# Altium schematic symbol library 二极管.SchLib: 31 symbols
Pins are listed as number, name and electrical type; pins without a type are passive.

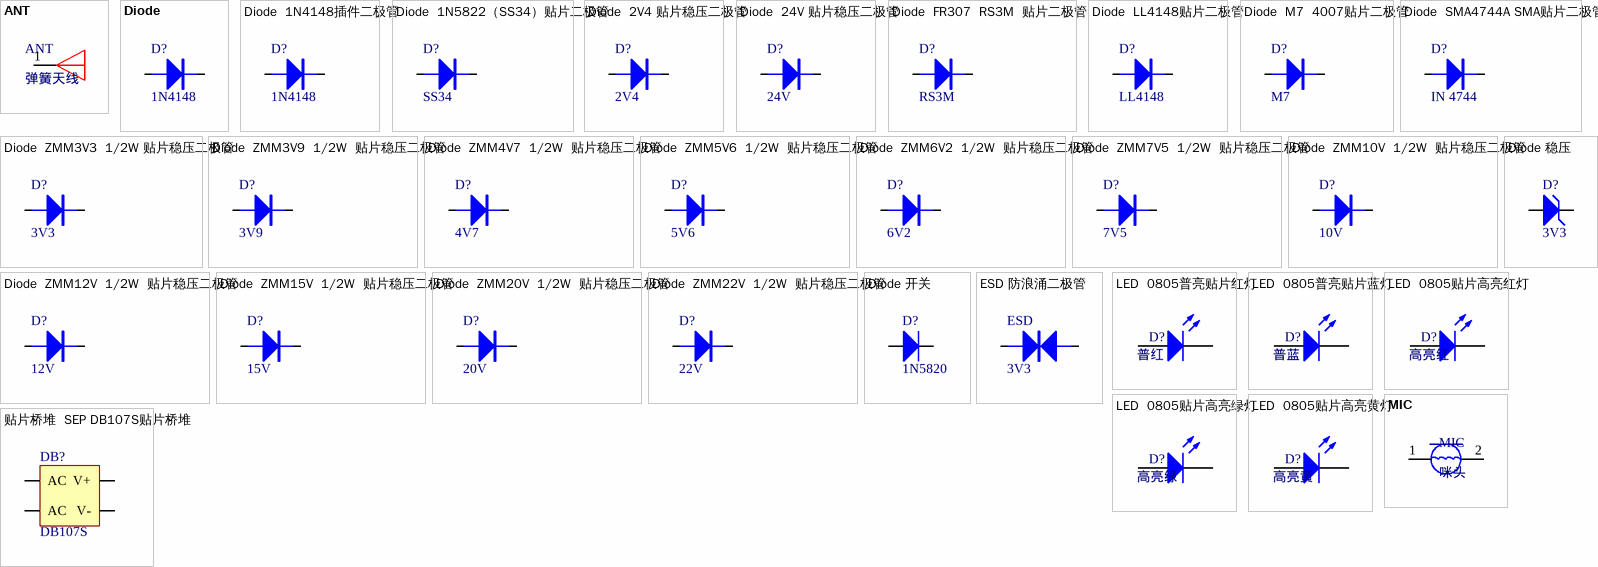
[diagram p0: symbols ANT to 贴片桥堆  SEP DB107S贴片桥堆]

## ANT
designator ANT, comment 弹簧天线
ANT
footprint ANT (弹簧天线)
pins: 1

## Diode
designator D?, comment 1N4148
二极管（模板）; 单位: 只; 仓库名称: 元件仓; 加工方式: 贴片; 规格型号: *
pins: 1, 2

## Diode  1N4148插件二极管
designator D?, comment 1N4148
1N4148插件二极管; 单位: 只; 仓库名称: 元件仓; 加工方式: 插件
footprint IN 34
pins: 1, 2

## Diode  1N5822（SS34）贴片二极管
designator D?, comment SS34
1N5822（SS34）贴片二极管; 单位: 只; 规格型号: DO-214AC（SMA）; 物料代码: 3.01.05.02.0029; 助记码: 1N5822（SS34）TPEJG; 仓库名称: 元件仓; 加工方式: 贴片; 物料名称: 1N5822（SS34）贴片二极管
footprint DO-214AC (这是贴片二极管 1A)
pins: 1, 2

## Diode  2V4 贴片稳压二极管
designator D?, comment 2V4
2V4 贴片稳压二极管; 单位: 只; 物料代码: 3.01.05.02.0014; 助记码: 2V4 WYEJG; 仓库名称: 元件仓; 加工方式: 贴片; 规格型号: *; 物料名称: 2V4 贴片稳压二极管
footprint LL 34
pins: 1, 2

## Diode  24V 贴片稳压二极管
designator D?, comment 24V
24V 贴片稳压二极管; 单位: 只; 物料代码: 3.01.05.02.0013; 助记码: 20V WYEJG; 仓库名称: 元件仓; 加工方式: 贴片; 规格型号: *; 物料名称: 24V 贴片稳压二极管
footprint LL 34
pins: 1, 2

## Diode  FR307  RS3M  贴片二极管
designator D?, comment RS3M
FR307  RS3M  贴片二极管; 单位: 只; 规格型号: SMC/DO-214AA; 物料代码: 3.01.05.02.0012; 助记码: FR307  RS3M  TPEJG; 仓库名称: 元件仓; 加工方式: 贴片; 物料名称: FR307  RS3M  贴片二极管
footprint SMC (7.1x5.9*2.3mm（长宽高，不包括引脚）)
pins: 1, 2

## Diode  LL4148贴片二极管
designator D?, comment LL4148
LL4148贴片二极管; 单位: 只; 规格型号: LL-34; 物料名称: 1N4148贴片二极管; 物料代码: 3.01.05.02.0004; 助记码: 1N4148TPEJG; 仓库名称: 元件仓; 加工方式: 贴片
footprint LL 34
pins: 1, 2

## Diode  M7  4007贴片二极管
designator D?, comment M7
M7  4007贴片二极管; 单位: 只; 规格型号: DO-214; 物料代码: 3.01.05.02.0002; 助记码: M7  4007TPEJG; 仓库名称: 元件仓; 加工方式: 贴片; 物料名称: M7  4007贴片二极管
footprint M7
pins: 1, 2

## Diode  SMA4744A SMA贴片二极管
designator D?, comment IN 4744
SMA4744A SMA贴片二极管; 单位: 只; 规格型号: SMA/DO-214AC; 物料代码: 3.01.05.02.0003; 仓库名称: 元件仓; 加工方式: 贴片; 物料名称: SMA4744A SMA贴片二极管
footprint SMA (4.5x2.6*2.2mm（长宽高，不包括引脚）)
pins: 1, 2

## Diode  ZMM3V3  1/2W 贴片稳压二极管
designator D?, comment 3V3
ZMM3V3  1/2W 贴片稳压二极管; 单位: 只; 规格型号: LL-34; 物料代码: 3.01.05.02.0001; 仓库名称: 元件仓; 加工方式: 贴片; 物料名称: ZMM3V3  1/2W 贴片稳压二极管
footprint LL 34
pins: 1, 2

## Diode  ZMM3V9  1/2W  贴片稳压二极管
designator D?, comment 3V9
ZMM3V9　1/2W  贴片稳压二极管; 单位: 只; 规格型号: LL-34; 物料代码: 3.01.05.02.0005; 助记码: ZMM3V9　1/2W  TPWYEJ; 仓库名称: 元件仓; 加工方式: 贴片; 物料名称: ZMM3V9　1/2W  贴片稳压二极管
footprint LL 34
pins: 1, 2

## Diode  ZMM4V7  1/2W  贴片稳压二极管
designator D?, comment 4V7
ZMM4V7  1/2W  贴片稳压二极管; 单位: 只; 规格型号: LL-34; 物料代码: 3.01.05.02.0006; 助记码: ZMM4V7  1/2W  TPWYEJ; 仓库名称: 元件仓; 加工方式: 贴片; 物料名称: ZMM4V7  1/2W  贴片稳压二极管
footprint LL 34
pins: 1, 2

## Diode  ZMM5V6  1/2W  贴片稳压二极管
designator D?, comment 5V6
ZMM5V6  1/2W  贴片稳压二极管; 单位: 只; 规格型号: LL-34; 物料代码: 3.01.05.02.0025; 助记码: ZMM5V6  1/2W  TPWYEJ; 仓库名称: 元件仓; 加工方式: 贴片; 物料名称: ZMM5V6  1/2W  贴片稳压二极管
footprint LL 34
pins: 1, 2

## Diode  ZMM6V2  1/2W  贴片稳压二极管
designator D?, comment 6V2
ZMM6V2  1/2W  贴片稳压二极管; 单位: 只; 规格型号: LL-34; 物料代码: 3.01.05.02.0007; 助记码: ZMM6V2  1/2W  TPWYEJ; 仓库名称: 元件仓; 加工方式: 贴片; 物料名称: ZMM6V2  1/2W  贴片稳压二极管
footprint LL 34
pins: 1, 2

## Diode  ZMM7V5  1/2W  贴片稳压二极管
designator D?, comment 7V5
（查不到）ZMM7V5  1/2W  贴片稳压二极管; 单位: 只; 物料名称: ZMM10V  1/2W  贴片稳压二极管; 仓库名称: 元件仓; 加工方式: 贴片; 规格型号: *
footprint LL 34
pins: 1, 2

## Diode  ZMM10V  1/2W  贴片稳压二极管
designator D?, comment 10V
ZMM10V  1/2W  贴片稳压二极管; 单位: 只; 规格型号: LL-34; 物料代码: 3.01.05.02.0008; 助记码: ZMM10V  1/2W  TPWYEJ; 仓库名称: 元件仓; 加工方式: 贴片; 物料名称: ZMM10V  1/2W  贴片稳压二极管
footprint LL 34
pins: 1, 2

## Diode  ZMM12V  1/2W  贴片稳压二极管
designator D?, comment 12V
（查不到）ZMM12V  1/2W  贴片稳压二极管; 单位: 只; 仓库名称: 元件仓; 加工方式: 贴片; 规格型号: *; 物料名称: ZMM12V  1/2W  贴片稳压二极管
footprint LL 34
pins: 1, 2

## Diode  ZMM15V  1/2W  贴片稳压二极管
designator D?, comment 15V
（查不到）ZMM15V  1/2W  贴片稳压二极管; 单位: 只; 仓库名称: 元件仓; 加工方式: 贴片; 规格型号: *; 物料名称: ZMM15V  1/2W  贴片稳压二极管
footprint LL 34
pins: 1, 2

## Diode  ZMM20V  1/2W  贴片稳压二极管
designator D?, comment 20V
ZMM20V  1/2W  贴片稳压二极管; 单位: 只; 规格型号: LL-34; 物料代码: 3.01.05.02.0009; 助记码: ZMM20V  1/2W  TPWYEJ; 仓库名称: 元件仓; 加工方式: 贴片; 物料名称: ZMM20V  1/2W  贴片稳压二极管
footprint LL 34
pins: 1, 2

## Diode  ZMM22V  1/2W  贴片稳压二极管
designator D?, comment 22V
ZMM22V  1/2W  贴片稳压二极管; 单位: 只; 规格型号: LL-34; 物料代码: 3.01.05.02.0010; 助记码: ZMM22V  1/2W  TPWYEJ; 仓库名称: 元件仓; 加工方式: 贴片; 物料名称: ZMM22V  1/2W  贴片稳压二极管
footprint LL 34
pins: 1, 2

## Diode 开关
designator D?, comment 1N5820
玻封二极管（模板）; 加工方式: 贴片
footprint D 0805
pins: 1, 2

## Diode 稳压
designator D?, comment 3V3
玻封二极管（模板）; Published: 8-Jun-2000; Revision: July-2002: Re-released for DXP Platform.; Publisher: Altium Limited
footprint LL 34
pins: 1, 2

## ESD 防浪涌二极管
designator ESD, comment 3V3
ESD 二极管; 单位: 只; 规格型号: LL-34; 物料名称: ZMM3V3  1/2W 贴片稳压二极管; 物料代码: 3.01.05.02.0001; 仓库名称: 元件仓; 加工方式: 贴片
footprint LL 34
pins: 1, 2

## LED  0805普亮贴片红灯
designator D?, comment 普红
0805普亮贴片红灯; 单位: 只; 物料代码: 3.01.13.01.0001; 助记码: 0805PLTPHD; 仓库名称: 元件仓; 加工方式: 贴片; 物料名称: 0805普亮贴片红灯; 规格型号: *
footprint LED 0805 (普通亮度，高亮绿灯用)
pins: 1 A, 2 K

## LED  0805普亮贴片蓝灯
designator D?, comment 普蓝
0805普亮贴片蓝灯; 单位: 只; 仓库名称: 元件仓; 加工方式: 贴片; 物料名称: 0805普亮贴片蓝灯; 规格型号: *
footprint LED 0805 (普通亮度，高亮绿灯用)
pins: 1 A, 2 K

## LED  0805贴片高亮红灯
designator D?, comment 高亮红
0805贴片高亮红灯; 单位: 只; 物料代码: 3.01.13.01.0005; 助记码: 0805TPGLHD; 规格型号: E6U0805URAC1UDA; 仓库名称: 元件仓; 加工方式: 贴片; 物料名称: 0805贴片高亮红灯
footprint LED 0805   反极性 (极性相反；高亮红，高亮黄专用)
pins: 1 A, 2 K

## LED  0805贴片高亮绿灯
designator D?, comment 高亮绿
0805贴片高亮绿灯; 单位: 只; 仓库名称: 元件仓; 加工方式: 贴片; 物料名称: 0805贴片高亮绿灯; 规格型号: *
footprint LED 0805 (普通亮度，高亮绿灯用)
pins: 1 A, 2 K

## LED  0805贴片高亮黄灯
designator D?, comment 高亮黄
0805贴片高亮黄灯; 单位: 只; 仓库名称: 元件仓; 加工方式: 贴片; 物料名称: 0805贴片高亮黄灯; 规格型号: *
footprint LED 0805   反极性 (极性相反；高亮红，高亮黄专用)
pins: 1 A, 2 K

## MIC
designator MIC, comment 咪头
footprint MIC (咪头)
pins: 1, 2

## 贴片桥堆  SEP DB107S贴片桥堆
designator DB?, comment DB107S
SEP DB107S贴片桥堆; 物料代码: 3.01.17.02.0001; 助记码: SOP-4; 规格型号: SEP DB107STPQD; 仓库名称: 元件仓; 单位: 只; 加工方式: 贴片; 物料名称: SEP DB107S贴片桥堆; 备注: *
footprint SOP-4 (贴片桥堆DB107S)
pins: 1 AC, 2 AC, 3 V+, 4 V-